# Altium schematic symbol library EPC.SCHLIB: 38 symbols
Pins are listed as number, name and electrical type; pins without a type are passive.

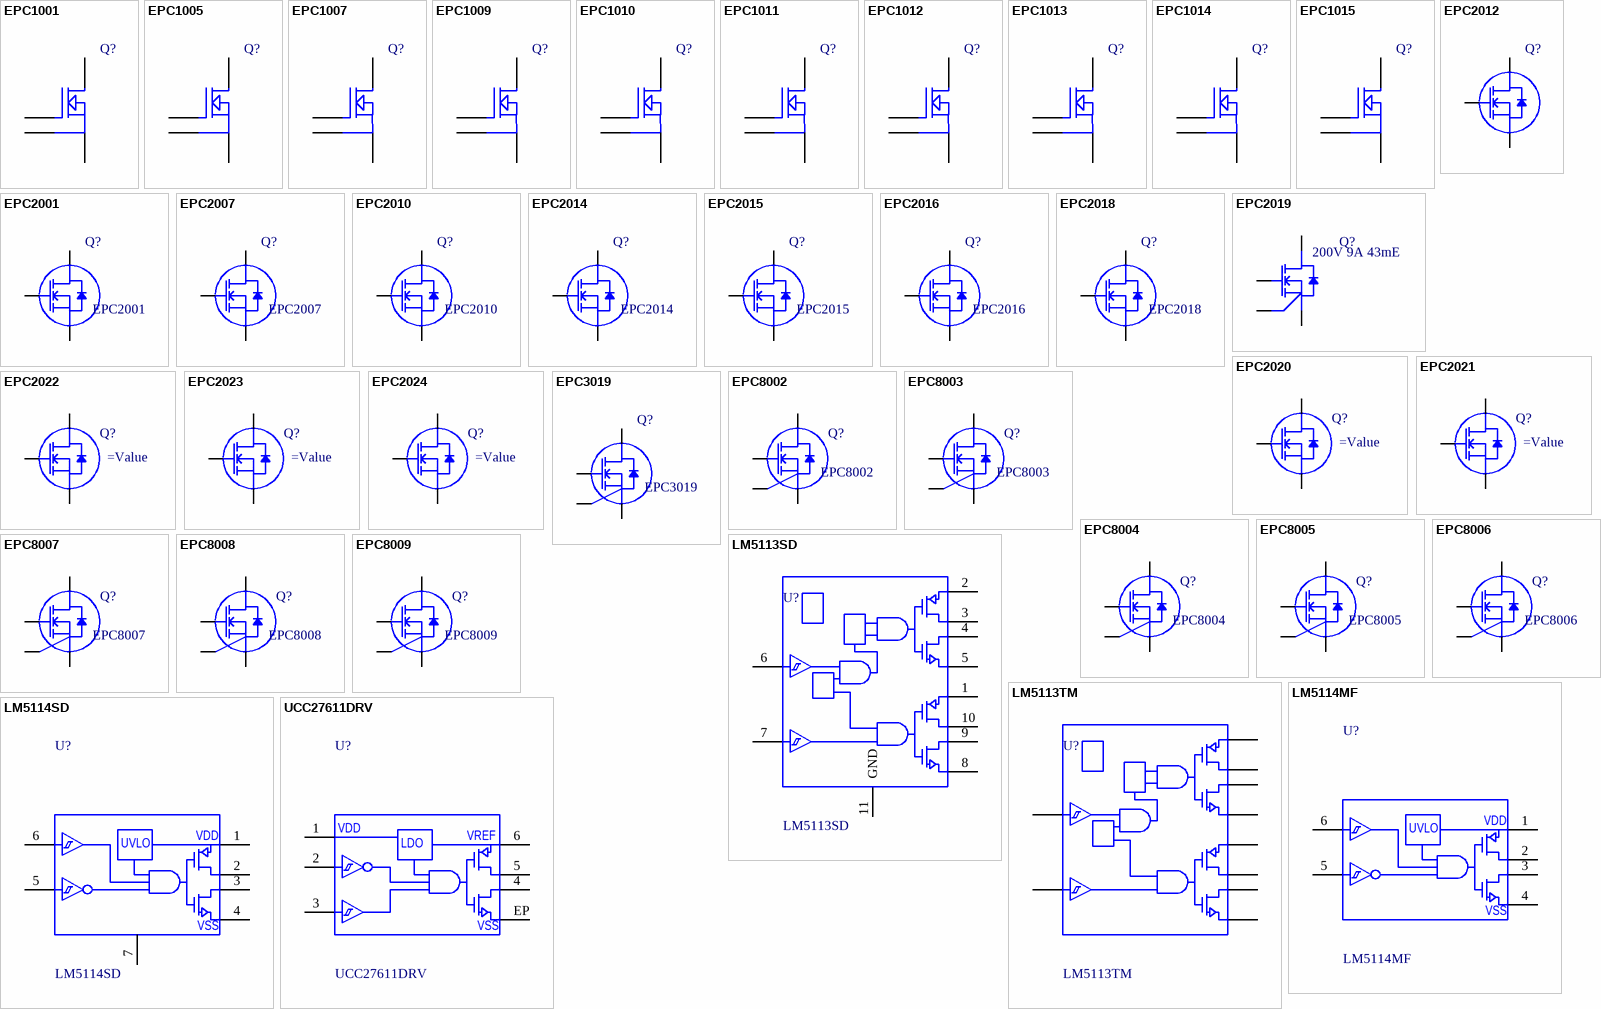
[diagram p0: symbols EPC1001 to UCC27611DRV]

## EPC1001
designator Q?  (value not drawn)
100V 25A eGaN
pins: 1 G, 2 SD (oe), 3 D1 (oc), 4 SP1 (oe), 5 D2 (oc), 6 SP2 (oe), 7 D3 (oc), 8 SP3 (oe), 9 D4 (oc), 10 SP4 (oe), 11 D5 (oc)

## EPC1005
designator Q?  (value not drawn)
60V 25A eGaN
pins: 1 G, 2 SD (oe), 3 D1 (oc), 4 SP1 (oe), 5 D2 (oc), 6 SP2 (oe), 7 D3 (oc), 8 SP3 (oe), 9 D4 (oc), 10 SP4 (oe), 11 D5 (oc)

## EPC1007
designator Q?  (value not drawn)
100V 6A eGaN
pins: 1 G, 2 SD (oe), 3 D1 (oc), 4 SP1 (oe), 5 D2 (oc)

## EPC1009
designator Q?  (value not drawn)
60V 6A eGaN
pins: 1 G, 2 SD (oe), 3 D1 (oc), 4 SP1 (oe), 5 D2 (oc)

## EPC1010
designator Q?  (value not drawn)
200V 12A eGaN
pins: 1 G, 2 SD (oe), 3 D1 (oc), 4 SP1 (oe), 5 D2 (oc), 6 SP2 (oe), 7 D3 (oc)

## EPC1011
designator Q?  (value not drawn)
150V 12A eGaN
pins: 1 G, 2 SD (oe), 3 D1 (oc), 4 SP1 (oe), 5 D2 (oc), 6 SP2 (oe), 7 D3 (oc)

## EPC1012
designator Q?  (value not drawn)
200V 3A eGaN
pins: 1 G, 2 SD (oe), 3 D1 (oc), 4 SP1 (oe)

## EPC1013
designator Q?  (value not drawn)
150V 3A eGaN
pins: 1 G, 2 SD (oe), 3 D1 (oc), 4 SP1 (oe)

## EPC1014
designator Q?  (value not drawn)
40V 10A eGaN
pins: 1 G, 2 SD (oe), 3 D1 (oc), 4 SP1 (oe), 5 D2 (oc)

## EPC1015
designator Q?  (value not drawn)
40V 33A eGaN
pins: 1 G, 2 SD (oe), 3 D1 (oc), 4 SP1 (oe), 5 D2 (oc), 6 SP2 (oe), 7 D3 (oc), 8 SP3 (oe), 9 D4 (oc), 10 SP4 (oe), 11 D5 (oc)

## EPC2001
designator Q?
100V 25A 7mE
pins: 1 G, 2 SS (oe), 3 D1 (oc), 4 SP1 (oe), 5 D2 (oc), 6 SP2 (oe), 7 D3 (oc), 8 SP3 (oe), 9 D4 (oc), 10 SP4 (oe), 11 D5 (oc)

## EPC2007
designator Q?
100V 6A 30mE
pins: 1 G, 2 SS (oe), 3 D1 (oc), 4 SP1 (oe), 5 D2 (oc)

## EPC2010
designator Q?
200V 12A 25mE
pins: 1 G, 2 SS (oe), 3 D1 (oc), 4 SP1 (oe), 5 D2 (oc), 6 SP2 (oe), 7 D3 (oc)

## EPC2012
designator Q?  (value not drawn)
200V 3A 100mE
pins: 1 G, 2 SS (oe), 3 D (oc), 4 SP (oe)

## EPC2014
designator Q?
40V 10A 16mE
pins: 1 G, 2 SS (oe), 3 D1 (oc), 4 SP1 (oe), 5 D2 (oc)

## EPC2015
designator Q?
40V 33A 4mE
pins: 1 G, 2 SS (oe), 3 D1 (oc), 4 SP1 (oe), 5 D2 (oc), 6 SP2 (oe), 7 D3 (oc), 8 SP3 (oe), 9 D4 (oc), 10 SP4 (oe), 11 D5 (oc)

## EPC2016
designator Q?
100V 11A 16mE
pins: 1 G, 2 SS (oe), 3 D1 (oc), 4 SP1 (oe), 5 D2 (oc), 6 SP2 (oe)

## EPC2018
designator Q?
150V 12A 25mE
pins: 1 G, 2 SS (oe), 3 D1 (oc), 4 SP1 (oe), 5 D2 (oc), 6 SP2 (oe), 7 D3 (oc)

## EPC2019
designator Q?  value 200V 9A 43mE  (hidden comment: EPC2019)
200V 9A 43mE; PCBfootprint: M5_200V; MFG: EPC; Config: *; MFGPN: EPC2019
footprint EPC2X200M
pins: 1 G, 2 GR (oe), 3 D1 (oc), 4 SP1 (oe), 5 D2 (oc), 6 SP2 (oe), 7 Sub (oe)

## EPC2020
designator Q?
60V 60A 2mE
pins: 1 G, 2 S1 (oe), 3 D1 (oc), 4 D1 (oc), 5 S1 (oe), 6 S1 (oe), 7 D1 (oc), 8 D1 (oc), 9 S1 (oe), 10 S1 (oe), 11 D1 (oc), 12 D1 (oc), 13 S1 (oe), 14 S1 (oe), 15 D1 (oc), 16 D1 (oc), 17 S1 (oe), 18 S1 (oe), 19 D1 (oc), 20 D1 (oc), 21 S1 (oe), 22 S1 (oe), 23 D1 (oc), 24 D1 (oc), 25 S1 (oe), 26 S1 (oe), 27 D1 (oc), 28 D1 (oc), 29 S1 (oe), 30 SS (oe)

## EPC2021
designator Q?
80V 60A 2.5mE
pins: 1 G, 2 S1 (oe), 3 D1 (oc), 4 D1 (oc), 5 S1 (oe), 6 S1 (oe), 7 D1 (oc), 8 D1 (oc), 9 S1 (oe), 10 S1 (oe), 11 D1 (oc), 12 D1 (oc), 13 S1 (oe), 14 S1 (oe), 15 D1 (oc), 16 D1 (oc), 17 S1 (oe), 18 S1 (oe), 19 D1 (oc), 20 D1 (oc), 21 S1 (oe), 22 S1 (oe), 23 D1 (oc), 24 D1 (oc), 25 S1 (oe), 26 S1 (oe), 27 D1 (oc), 28 D1 (oc), 29 S1 (oe), 30 SS (oe)

## EPC2022
designator Q?
100V 60A 3.2mE
pins: 1 G, 2 S1 (oe), 3 D1 (oc), 4 D1 (oc), 5 S1 (oe), 6 S1 (oe), 7 D1 (oc), 8 D1 (oc), 9 S1 (oe), 10 S1 (oe), 11 D1 (oc), 12 D1 (oc), 13 S1 (oe), 14 S1 (oe), 15 D1 (oc), 16 D1 (oc), 17 S1 (oe), 18 S1 (oe), 19 D1 (oc), 20 D1 (oc), 21 S1 (oe), 22 S1 (oe), 23 D1 (oc), 24 D1 (oc), 25 S1 (oe), 26 S1 (oe), 27 D1 (oc), 28 D1 (oc), 29 S1 (oe), 30 SS (oe)

## EPC2023
designator Q?
30V 60A 1.3mE
pins: 1 G, 2 S1 (oe), 3 D1 (oc), 4 D1 (oc), 5 S1 (oe), 6 S1 (oe), 7 D1 (oc), 8 D1 (oc), 9 S1 (oe), 10 S1 (oe), 11 D1 (oc), 12 D1 (oc), 13 S1 (oe), 14 S1 (oe), 15 D1 (oc), 16 D1 (oc), 17 S1 (oe), 18 S1 (oe), 19 D1 (oc), 20 D1 (oc), 21 S1 (oe), 22 S1 (oe), 23 D1 (oc), 24 D1 (oc), 25 S1 (oe), 26 S1 (oe), 27 D1 (oc), 28 D1 (oc), 29 S1 (oe), 30 SS (oe)

## EPC2024
designator Q?
40V 60A 1.5mE
pins: 1 G, 2 S1 (oe), 3 D1 (oc), 4 D1 (oc), 5 S1 (oe), 6 S1 (oe), 7 D1 (oc), 8 D1 (oc), 9 S1 (oe), 10 S1 (oe), 11 D1 (oc), 12 D1 (oc), 13 S1 (oe), 14 S1 (oe), 15 D1 (oc), 16 D1 (oc), 17 S1 (oe), 18 S1 (oe), 19 D1 (oc), 20 D1 (oc), 21 S1 (oe), 22 S1 (oe), 23 D1 (oc), 24 D1 (oc), 25 S1 (oe), 26 S1 (oe), 27 D1 (oc), 28 D1 (oc), 29 S1 (oe), 30 SS (oe)

## EPC3019
designator Q?
600V 5A 100mE
pins: 1 G, 2 SD, 3 SP1 (oe), 4 SP2 (oe), 5 D1 (oc), 6 D2 (oc), 7 D3 (oc), 8 D4 (oc), 9 SP3 (oe)

## EPC8002
designator Q?
65V 2A 530m
pins: 1 G, 2 SG (oe), 3 SP1 (oe), 4 D (oc), 5 SP2 (oe), 6 SB (oe)

## EPC8003
designator Q?
100V 2.5A 300m
pins: 1 G, 2 SG (oe), 3 SP1 (oe), 4 D (oc), 5 SP2 (oe), 6 SB (oe)

## EPC8004
designator Q?
40V 4.4A 125m
pins: 1 G, 2 SG (oe), 3 SP1 (oe), 4 D (oc), 5 SP2 (oe), 6 SB (oe)

## EPC8005
designator Q?
65V 2.9A 275m
pins: 1 G, 2 SG (oe), 3 SP1 (oe), 4 D (oc), 5 SP2 (oe), 6 SB (oe)

## EPC8006
designator Q?
40V 3.1A 250m
pins: 1 G, 2 SG (oe), 3 SP1 (oe), 4 D (oc), 5 SP2 (oe), 6 SB (oe)

## EPC8007
designator Q?
40V 3.8A 160m
pins: 1 G, 2 SG (oe), 3 SP1 (oe), 4 D (oc), 5 SP2 (oe), 6 SB (oe)

## EPC8008
designator Q?
40V 2.7A 325m
pins: 1 G, 2 SG (oe), 3 SP1 (oe), 4 D (oc), 5 SP2 (oe), 6 SB (oe)

## EPC8009
designator Q?
65V 4.1A 138m
pins: 1 G, 2 SG (oe), 3 SP1 (oe), 4 D (oc), 5 SP2 (oe), 6 SB (oe)

## LM5113SD
designator U?
eGaN 100V Half Bridge Gate Driver
pins: 1 VDD, 2 HB, 3 HOH, 4 HOL, 5 HS, 6 Hin, 7 Lin, 8 VSS, 9 LOL, 10 LOH, 11 GND

## LM5113TM
designator U?
eGaN 100V Half Bridge Gate Driver
pins: A1 LOL, A2 VSS, A3 VDD, A4 Lin, B1 LOH, B4 Hin, C1 HS, C4 VDD, D1 HOL, D2 HOH, D3 HB, D4 HS

## LM5114MF
designator U?
eGaN Gate Driver
pins: 1 VDD, 2 Pout, 3 Nout, 4 VSS, 5 INB, 6 IN
text: UVLO

## LM5114SD
designator U?
eGaN Gate Driver
pins: 1 VDD, 2 Pout, 3 Nout, 4 VSS, 5 INB, 6 IN, 7 GND
text: UVLO

## UCC27611DRV
designator U?
eGaN Gate Driver with LDO
pins: 1 VDD, 2 INB, 3 IN, 4 Nout, 5 Pout, 6 VREF, EP VSS
text: LDO